# Altium schematic symbol library clock.SchLib: 4 symbols
Pins are listed as number, name and electrical type; pins without a type are passive.

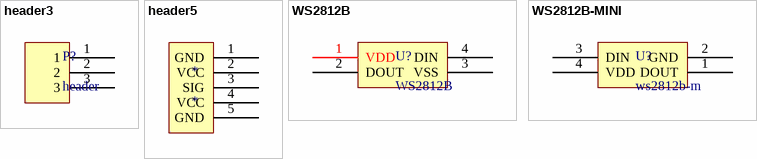
[diagram p0: symbols header3 to WS2812B-MINI]

## header3
designator P?, comment header
footprint header3
pins: 1, 2, 3

## header5
designator *
footprint header5
pins: 1 GND, 2 VCC, 3 SIG, 4 VCC, 5 GND

## WS2812B
designator U?
footprint ws2812b
pins: 1 VDD, 2 DOUT, 3 VSS, 4 DIN

## WS2812B-MINI
designator U?, comment ws2812b-m
footprint WS2812B-MINI
pins: 1 DOUT, 2 GND, 3 DIN, 4 VDD